# EAGLE library part MCP6002T-I_SN (library MCP6002T-I_SN)
Op. Amplifier Dual 1MHz Low-Power SOIC8 Microchip MCP6002T-I/SN, Dual Low Power Op Amp, 1MHz Rail-Rail, 1.8 6 V, 8-Pin SOIC Source: Datasheet <https://componentsearchengine.com/Datasheets/2/MCP6002T-I_SN.pdf>
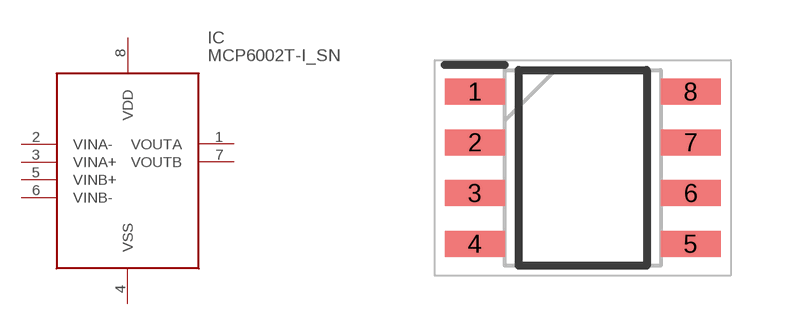
[diagram p0: symbol with the pads of SOIC127P600X175-8N; footprint SOIC127P600X175-8N]

Designator prefix IC

## MCP6002T-I_SN (Arrow_Part_Number: MCP6002T-I/SN; Arrow_Price-Stock: https://www.arrow.com/en/products/mcp6002t-isn/microchip-technology?region=nac; Description: Op. Amplifier Dual 1MHz Low-Power SOIC8 Microchip MCP6002T-I/SN, Dual Low Power Op Amp, 1MHz Rail-Rail, 1.8 6 V, 8-Pin SOIC; Height: 1.75mm; Manufacturer_Name: Microchip; Manufacturer_Part_Number: MCP6002T-I/SN; Mouser_Part_Number: 579-MCP6002T-I/SN; Mouser_Price-Stock: https://www.mouser.co.uk/ProductDetail/Microchip-Technology/MCP6002T-I-SN?qs=hul3WK2zl4od4mMZEAcUDQ%3D%3D)  [SOIC127P600X175-8N]
1  VOUTA
2  VINA-
3  VINA+
4  VSS
5  VINB+
6  VINB-
7  VOUTB
8  VDD

## Footprint SOIC127P600X175-8N (pad centres in mm)
MCP6002T-I/SN-1
smd 1.5 x 0.65: 1 -2.7,1.905; 2 -2.7,0.635; 3 -2.7,-0.635; 4 -2.7,-1.905; 5 2.7,-1.905; 6 2.7,-0.635; 7 2.7,0.635; 8 2.7,1.905